# EAGLE library part HEADER-2X13-RASPBERRY-PI (library magzor)
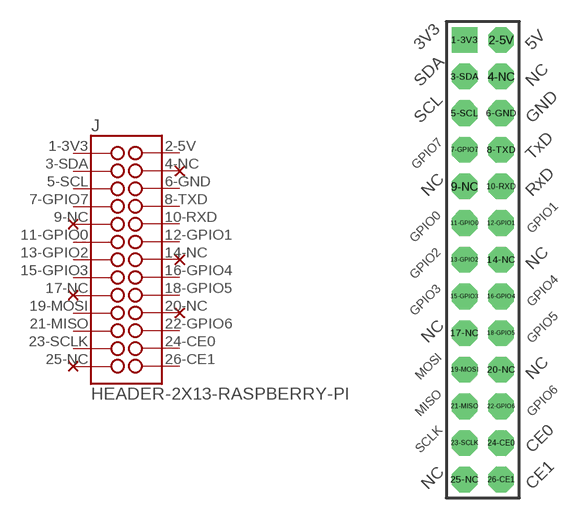
[diagram p11: symbol with the pads of HEADER-2X13-RASPBERRY-PI; footprint HEADER-2X13-RASPBERRY-PI]

Designator prefix J

## HEADER-2X13-RASPBERRY-PI  [HEADER-2X13-RASPBERRY-PI]
1-3V3  1
2-5V  2
3-SDA  3
4-NC  4
5-SCL  5
6-GND  6
7-GPIO7  7
8-TXD  8
9-NC  9
10-RXD  10
11-GPIO0  11
12-GPIO1  12
13-GPIO2  13
14-NC  14
15-GPIO3  15
16-GPIO4  16
17-NC  17
18-GPIO5  18
19-MOSI  19
20-NC  20
21-MISO  21
22-GPIO6  22
23-SCLK  23
24-CE0  24
25-NC  25
26-CE1  26

## Footprint HEADER-2X13-RASPBERRY-PI (pad centres in mm)
drill 0.965 pad 1.778 square: 1-3V3 -1.27,15.24
drill 0.965 pad 1.778 octagon: 2-5V 1.27,15.24; 3-SDA -1.27,12.7; 4-NC 1.27,12.7; 5-SCL -1.27,10.16; 6-GND 1.27,10.16; 7-GPIO7 -1.27,7.62; 8-TXD 1.27,7.62; 9-NC -1.27,5.08; 10-RXD 1.27,5.08; 11-GPIO0 -1.27,2.54; 12-GPIO1 1.27,2.54; 13-GPIO2 -1.27,0; 14-NC 1.27,0; 15-GPIO3 -1.27,-2.54; 16-GPIO4 1.27,-2.54; 17-NC -1.27,-5.08; 18-GPIO5 1.27,-5.08; 19-MOSI -1.27,-7.62; 20-NC 1.27,-7.62; 21-MISO -1.27,-10.16; 22-GPIO6 1.27,-10.16; 23-SCLK -1.27,-12.7; 24-CE0 1.27,-12.7; 25-NC -1.27,-15.24; 26-CE1 1.27,-15.24